# Altium schematic symbol library Symbols.SchLib: 27 symbols
Pins are listed as number, name and electrical type; pins without a type are passive.

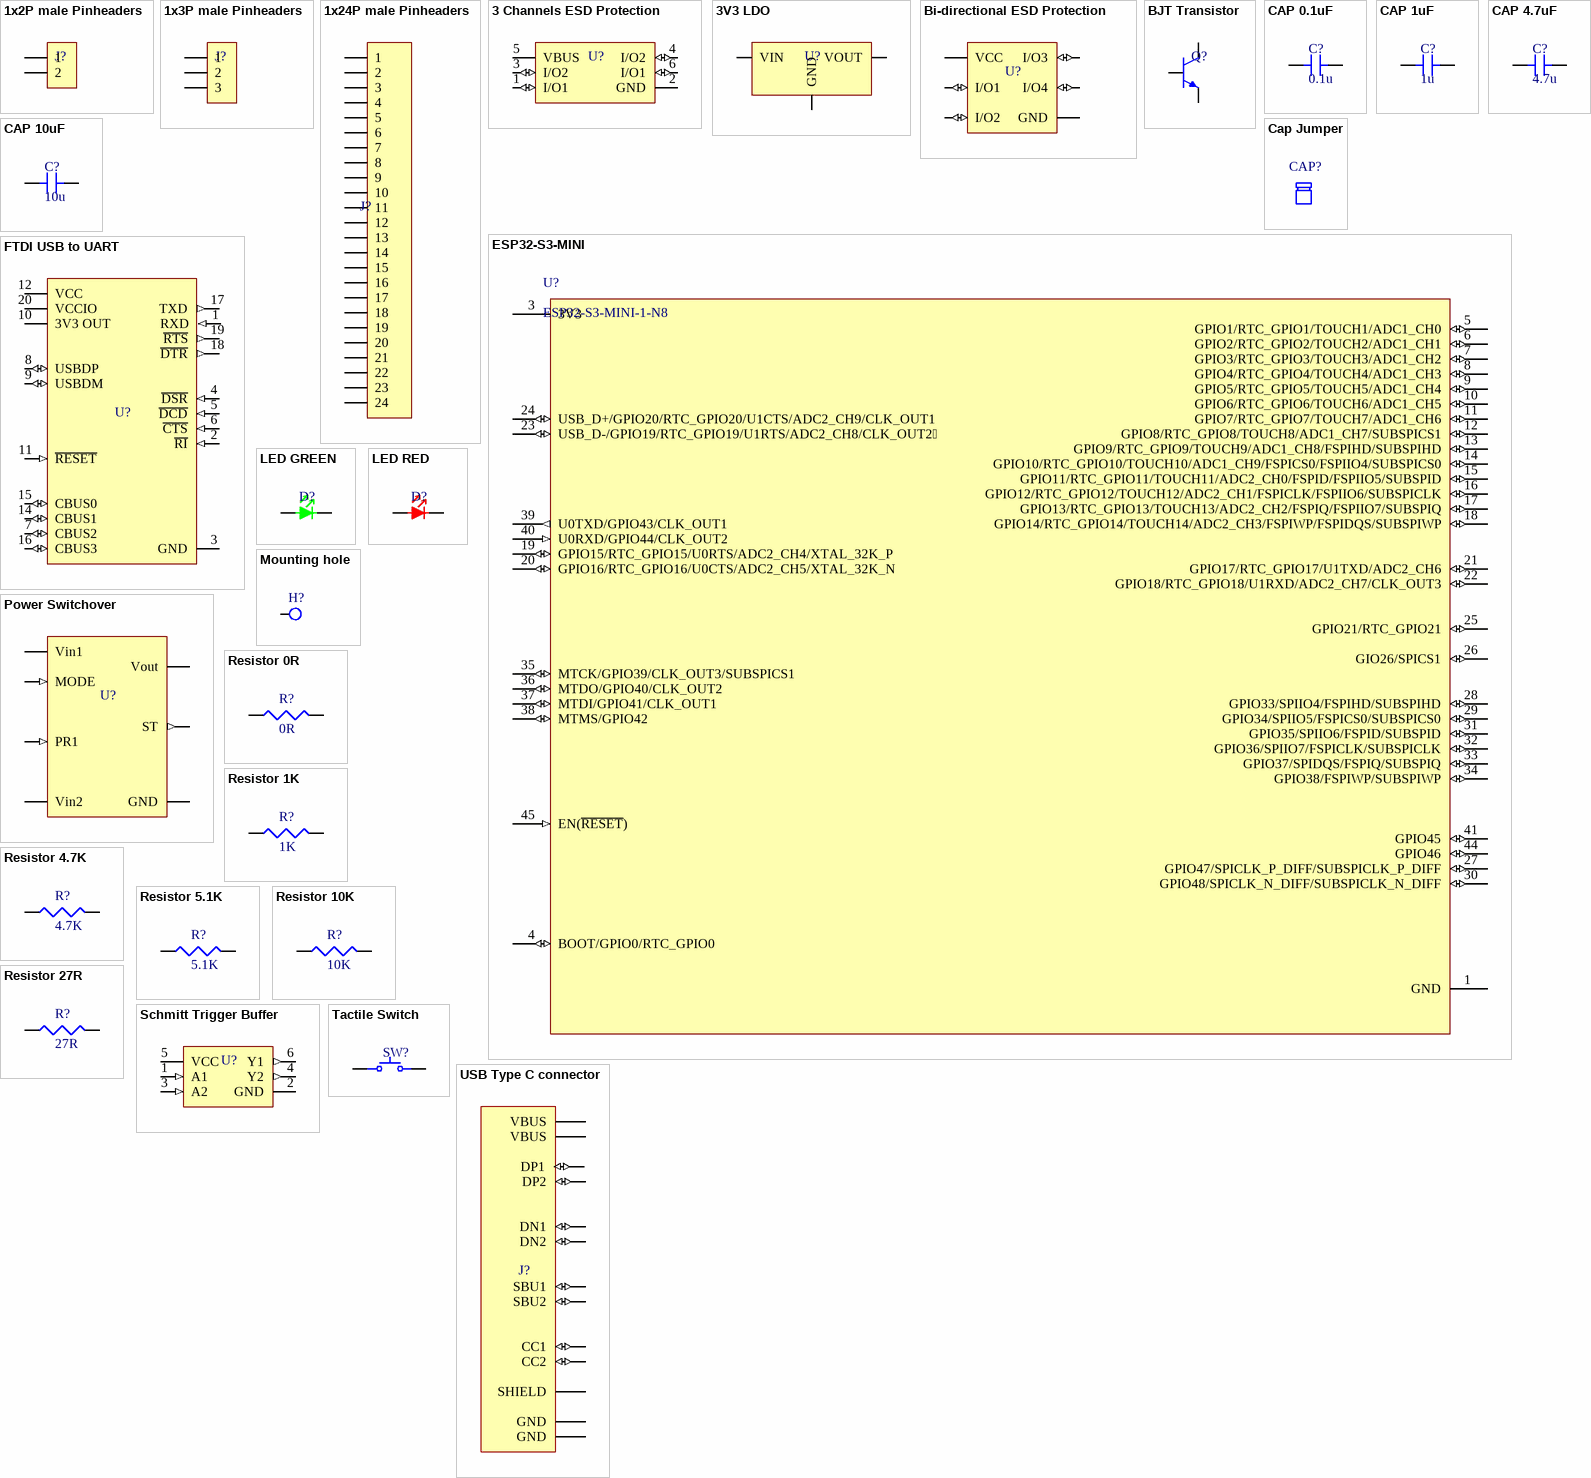
[diagram p0: symbols 1x2P male Pinheaders to USB Type C connector]

## 1x2P male Pinheaders
designator J?  (value not drawn)
3A Direct Insert Policy 2.54mm 2P 6mm 3mm 2.54mm Single Row 1x2P Plugin,P=2.54mm Pin Headers ROHS; Manufacturer: DEALON; Mfr. Part #: DZ254R-11-02-63; Supplier: LCSC ELECTRONICS; Supplier Part #: C2935908; Package: Plugin,P=2.54mm
footprint 1x2P male pinheader
pins: 1, 2

## 1x3P male Pinheaders
designator J?  (value not drawn)
Gold 250V 3A Direct Insert Policy 2.54mm 3P 260℃ 6mm -40℃~+105℃ 3mm 2.54mm Brass Black Single Row 2.54mm 1x3P Plugin,P=2.54mm Pin Headers ROHS; Manufacturer: Hanbo Electronic; Mfr. Part #: HB-PH3-25413PB2GOP; Supplier: LCSC ELECTRONICS; Supplier Part #: C6332196; Package: Plugin,P=2.54mm
footprint 1x3P male pinheader
pins: 1, 2, 3

## 1x24P male Pinheaders
designator J?  (value not drawn)
Gold 250V 3A Policy 2.5mm 24P 260℃ -40℃~+105℃ 2.54mm Single Row Black Brass 2.54mm 1x24P Plugin,P=2.54mm Pin Headers ROHS; Manufacturer: XKB Connection; Mfr. Part #: X6511WV-24H-C60D30; Supplier: LCSC ELECTRONICS; Supplier Part #: C725956; Package: Plugin,P=2.54mm
footprint 1x24P male pinheader
pins: 1, 2, 3, 4, 5, 6, 7, 8, 9, 10, 11, 12, 13, 14, 15, 16, 17, 18, 19, 20, 21, 22, 23, 24

## 3 Channels ESD Protection
designator U?  (value not drawn)
5A 17V 6V Unidirectional 5.25V SOT-23-6 Electrostatic and Surge Protection (TVS/ESD) ROHS; Manufacturer: STMicroelectronics; Mfr. Part #: USBLC6-2SC6; Supplier: LCSC; Supplier Part #: C7519; Package: SOT-23-6
footprint SOT-23-6
pins: 1 I/O1 (io), 2 GND (power), 3 I/O2 (io), 4 I/O2 (io), 5 VBUS (power), 6 I/O1 (io)

## 3V3 LDO
designator U?
79dB@(120Hz) 1.5A Fixed 3.3V Positive electrode 30V TO-252-2(DPAK) Voltage Regulators - Linear, Low Drop Out (LDO) Regulators ROHS; Manufacturer: STMicroelectronics; Mfr. Part #: LD1086DT33TR; Supplier: LCSC ELECTRONICS; Supplier Part #: C12051; Package: TO-252-2(DPAK)
footprint TO-252-2(DPAK)
pins: 1 GND (power), 2 VIN (power), 3 VOUT (power)

## Bi-directional ESD Protection
designator U?
8.5V 5.5V SOT-23-6 ESD and Surge Protection (TVS/ESD) ROHS; Manufacturer: Littelfuse; Mfr. Part #: SP0504SHTG; Supplier: LCSC ELECTRONICS; Supplier Part #: C207264; Package: SOT-23-6
footprint SOT-23-6
pins: 1 I/O1 (io), 2 GND (power), 3 I/O2 (io), 4 I/O3 (io), 5 VCC (power), 6 I/O4 (io)

## BJT Transistor
designator Q?  (value not drawn)
25V 300mW 120@100mA,1V 1.5A NPN SOT-23 Bipolar (BJT) ROHS; Manufacturer: Jiangsu Changjing Electronics Technology Co., Ltd.; Mfr. Part #: SS8050-G(RANGE:120-200); Supplier: LCSC ELECTRONICS; Supplier Part #: C164886; Package: SOT-23
footprint SOT-23
pins: 1, 2, 3

## CAP 0.1uF
designator C?, comment 0.1u
50V 100nF X7R ±5% 0603 Multilayer Ceramic Capacitors MLCC - SMD/SMT ROHS; Manufacturer: YAGEO; Mfr. Part #: CC0603JRX7R9BB104; Supplier: LCSC ELECTRONICS; Supplier Part #: C91183; Package: 0603
footprint 0603-CAP
pins: 1, 2

## CAP 1uF
designator C?, comment 1u
16V 1uF X7R ±5% 0603 Multilayer Ceramic Capacitors MLCC - SMD/SMT ROHS; Manufacturer: YAGEO; Mfr. Part #: CC0603JRX7R7BB105; Supplier: LCSC ELECTRONICS; Supplier Part #: C519560; Package: 0603
footprint 0603-CAP
pins: 1, 2

## CAP 4.7uF
designator C?, comment 4.7u
16V 4.7uF X5R ±10% 0603 Multilayer Ceramic Capacitors MLCC - SMD/SMT ROHS; Manufacturer: Samsung Electro-Mechanics; Mfr. Part #: CL10A475KO8NNNC; Supplier: LCSC ELECTRONICS; Supplier Part #: C19666; Package: 0603
footprint 0603-CAP
pins: 1, 2

## CAP 10uF
designator C?, comment 10u
16V 10uF X5R ±10% 0603 Multilayer Ceramic Capacitors MLCC - SMD/SMT ROHS; Manufacturer: Samsung Electro-Mechanics; Mfr. Part #: CL10A106KO8NQNC; Supplier: LCSC ELECTRONICS; Supplier Part #: C962136; Package: 0603
footprint 0603-CAP
pins: 1, 2

## Cap Jumper
designator CAP?  (value not drawn)
Open top 3A 2.54mm P=2.54mm Shunts, Jumpers ROHS; Manufacturer: BOOMELE(Boom Precision Elec); Mfr. Part #: 2.54; Supplier: LCSC ELECTRONICS; Supplier Part #: C5305; Package: P=2.54mm

## ESP32-S3-MINI
designator U?, comment ESP32-S3-MINI-1-N8
20.5dBm ESP32-S3FN8 chip 2.4GHz SMD-41P WiFi Modules ROHS; Manufacturer: Espressif Systems; Mfr. Part #: ESP32-S3-MINI-1-N8; Supplier: LCSC ELECTRONICS; Supplier Part #: C2913206; Package: SMD-41P
footprint ESP32-S3-MINI-1-N8
pins: 1 GND (power), 3 3V3 (power), 4 BOOT/GPIO0/RTC_GPIO0 (io), 5 GPIO1/RTC_GPIO1/TOUCH1/ADC1_CH0 (io), 6 GPIO2/RTC_GPIO2/TOUCH2/ADC1_CH1 (io), 7 GPIO3/RTC_GPIO3/TOUCH3/ADC1_CH2 (io), 8 GPIO4/RTC_GPIO4/TOUCH4/ADC1_CH3 (io), 9 GPIO5/RTC_GPIO5/TOUCH5/ADC1_CH4 (io), 10 GPIO6/RTC_GPIO6/TOUCH6/ADC1_CH5 (io), 11 GPIO7/RTC_GPIO7/TOUCH7/ADC1_CH6 (io), 12 GPIO8/RTC_GPIO8/TOUCH8/ADC1_CH7/SUBSPICS1 (io), 13 GPIO9/RTC_GPIO9/TOUCH9/ADC1_CH8/FSPIHD/SUBSPIHD (io), 14 GPIO10/RTC_GPIO10/TOUCH10/ADC1_CH9/FSPICS0/FSPIIO4/SUBSPICS0 (io), 15 GPIO11/RTC_GPIO11/TOUCH11/ADC2_CH0/FSPID/FSPIIO5/SUBSPID (io), 16 GPIO12/RTC_GPIO12/TOUCH12/ADC2_CH1/FSPICLK/FSPIIO6/SUBSPICLK (io), 17 GPIO13/RTC_GPIO13/TOUCH13/ADC2_CH2/FSPIQ/FSPIIO7/SUBSPIQ (io), 18 GPIO14/RTC_GPIO14/TOUCH14/ADC2_CH3/FSPIWP/FSPIDQS/SUBSPIWP (io), 19 GPIO15/RTC_GPIO15/U0RTS/ADC2_CH4/XTAL_32K_P (io), 20 GPIO16/RTC_GPIO16/U0CTS/ADC2_CH5/XTAL_32K_N (io), 21 GPIO17/RTC_GPIO17/U1TXD/ADC2_CH6 (io), 22 GPIO18/RTC_GPIO18/U1RXD/ADC2_CH7/CLK_OUT3 (io), 23 USB_D-/GPIO19/RTC_GPIO19/U1RTS/ADC2_CH8/CLK_OUT2 (io), 24 USB_D+/GPIO20/RTC_GPIO20/U1CTS/ADC2_CH9/CLK_OUT1 (io), 25 GPIO21/RTC_GPIO21 (io), 26 GIO26/SPICS1 (io), 27 GPIO47/SPICLK_P_DIFF/SUBSPICLK_P_DIFF (io), 28 GPIO33/SPIIO4/FSPIHD/SUBSPIHD (io), 29 GPIO34/SPIIO5/FSPICS0/SUBSPICS0 (io), 30 GPIO48/SPICLK_N_DIFF/SUBSPICLK_N_DIFF (io), 31 GPIO35/SPIIO6/FSPID/SUBSPID (io), 32 GPIO36/SPIIO7/FSPICLK/SUBSPICLK (io), 33 GPIO37/SPIDQS/FSPIQ/SUBSPIQ (io), 34 GPIO38/FSPIWP/SUBSPIWP (io), 35 MTCK/GPIO39/CLK_OUT3/SUBSPICS1 (io), 36 MTDO/GPIO40/CLK_OUT2 (io), 37 MTDI/GPIO41/CLK_OUT1 (io), 38 MTMS/GPIO42 (io), 39 U0TXD/GPIO43/CLK_OUT1 (out), 40 U0RXD/GPIO44/CLK_OUT2 (in), 41 GPIO45 (io), 44 GPIO46 (io), 45 EN(~{RESET}) (in)

## FTDI USB to UART
designator U?  (value not drawn)
USB to UART UART QFN-20-EP(4x4) USB Converters ROHS; Manufacturer: FTDI; Mfr. Part #: FT231XQ-R; Supplier: LCSC ELECTRONICS; Supplier Part #: C132159; Package: QFN-20-EP(4x4)
footprint QFN-20-EP(4x4)
pins: 1 RXD (in), 2 ~{RI} (in), 3 GND (power), 4 ~{DSR} (in), 5 ~{DCD} (in), 6 ~{CTS} (in), 7 CBUS2 (io), 8 USBDP (io), 9 USBDM (io), 10 3V3 OUT (power), 11 ~{RESET} (in), 12 VCC (power), 14 CBUS1 (io), 15 CBUS0 (io), 16 CBUS3 (io), 17 TXD (out), 18 ~{DTR} (out), 19 ~{RTS} (out), 20 VCCIO (power)

## LED GREEN
designator D?, comment GREEN  (value not drawn)
25mA Colorless transparent lens 516nm~525nm -30℃~+85℃ Positive Stick Emerald 120° 80mW 1206 LED Indication - Discrete ROHS; Manufacturer: XINGLIGHT; Mfr. Part #: XL-3216UGC; Supplier: LCSC ELECTRONICS; Supplier Part #: C965825; Package: 1206
footprint 1206-LED green
pins: 1, 2

## LED RED
designator D?, comment RED  (value not drawn)
20mA 225mcd Colorless and transparent -20℃~+85℃ Positive Stick 615nm~630nm Red 120° 50mW 2.4V 1206 LED Indication - Discrete ROHS; Manufacturer: XINGLIGHT; Mfr. Part #: XL-3216SURC; Supplier: LCSC ELECTRONICS; Supplier Part #: C965822; Package: 1206
footprint 1206-LED red
pins: 1, 2

## Mounting hole
designator H?  (value not drawn)  (no BOM)
footprint Monting Hole
pins: 1

## Power Switchover
designator U?
1.6V~5.5V 42mΩ 2.5A 1 SOT-583 Power Distribution Switches ROHS; Manufacturer: Texas Instruments; Mfr. Part #: TPS2116DRLR; Supplier: LCSC ELECTRONICS; Supplier Part #: C3235557; Package: SOT-583
footprint SOT-583
pins: 1 GND (power), 2 Vout (power), 3 Vin1 (power), 4 PR1 (in), 5 MODE (in), 6 Vin2 (power), 8 ST (out)

## Resistor 0R
designator R?, comment 0R
62.5mW Thick Film Resistors 50V ±800ppm/℃ ±1% 0Ω 0402 Chip Resistor - Surface Mount ROHS; Manufacturer: UNI-ROYAL(Uniroyal Elec); Mfr. Part #: 0402WGF0000TCE; Supplier: LCSC ELECTRONICS; Supplier Part #: C17168; Package: 0402
footprint 0402-RES
pins: 1, 2

## Resistor 1K
designator R?, comment 1K
100mW Thick Film Resistors 75V ±100ppm/℃ ±1% 1kΩ 0603 Chip Resistor - Surface Mount ROHS; Manufacturer: UNI-ROYAL(Uniroyal Elec); Mfr. Part #: 0603WAF1001T5E; Supplier: LCSC ELECTRONICS; Supplier Part #: C21190; Package: 0603
footprint 0603-RES
pins: 1, 2

## Resistor 4.7K
designator R?, comment 4.7K
100mW Thick Film Resistors 75V ±100ppm/℃ ±1% 4.7kΩ 0603 Chip Resistor - Surface Mount ROHS; Manufacturer: UNI-ROYAL(Uniroyal Elec); Mfr. Part #: 0603WAF4701T5E; Supplier: LCSC ELECTRONICS; Supplier Part #: C23162; Package: 0603
footprint 0603-RES
pins: 1, 2

## Resistor 5.1K
designator R?, comment 5.1K
100mW Thick Film Resistors 75V ±100ppm/℃ ±5% 5.1kΩ 0603 Chip Resistor - Surface Mount ROHS; Manufacturer: UNI-ROYAL(Uniroyal Elec); Mfr. Part #: 0603WAJ0512T5E; Supplier: LCSC ELECTRONICS; Supplier Part #: C26000; Package: 0603
footprint 0603-RES
pins: 1, 2

## Resistor 10K
designator R?, comment 10K
100mW Thick Film Resistors 75V ±100ppm/℃ ±1% 10kΩ 0603 Chip Resistor - Surface Mount ROHS; Manufacturer: UNI-ROYAL(Uniroyal Elec); Mfr. Part #: 0603WAF1002T5E; Supplier: LCSC ELECTRONICS; Supplier Part #: C25804; Package: 0603
footprint 0603-RES
pins: 1, 2

## Resistor 27R
designator R?, comment 27R
100mW Thick Film Resistors 75V ±1% ±200ppm/℃ 27Ω 0603 Chip Resistor - Surface Mount ROHS; Manufacturer: UNI-ROYAL(Uniroyal Elec); Mfr. Part #: 0603WAF270JT5E; Supplier: LCSC ELECTRONICS; Supplier Part #: C25190; Package: 0603
footprint 0603-RES
pins: 1, 2

## Schmitt Trigger Buffer
designator U?  (value not drawn)
Schmitt Trigger 32mA 1.65V~5.5V 32mA SOT-363-6 Buffers, Drivers, Receivers, Transceivers ROHS; Manufacturer: onsemi; Mfr. Part #: NC7WZ17P6X; Supplier: LCSC ELECTRONICS; Supplier Part #: C81546; Package: SOT-363-6
footprint Schmitt SOT-363-6
pins: 1 A1 (in), 2 GND (power), 3 A2 (in), 4 Y2 (out), 5 VCC (power), 6 Y1 (out)

## Tactile Switch
designator SW?
50mA 5.1mm 100,000 Times 160gf 12V 5.1mm 1.5mm Round Button Vertical welding SPST SMD Tactile Switches ROHS; Manufacturer: XKB Connection; Mfr. Part #: TS-1187A-B-A-B; Supplier: LCSC ELECTRONICS; Supplier Part #: C318884; Package: SMD
footprint Tactile Switch
pins: 1, 2

## USB Type C connector
designator J?
5A 1 16P Female Type-C SMD USB Connectors ROHS; Manufacturer: Korean Hroparts Elec; Mfr. Part #: TYPE-C-31-M-12; Supplier: LCSC ELECTRONICS; Supplier Part #: C165948; Package: SMD
footprint USB-C
pins: A1/B12 GND (power), A4/B9 VBUS (power), A5 CC1 (io), A6 DP1 (io), A7 DN1 (io), A8 SBU1 (io), B1/A12 GND (power), B4/A9 VBUS (power), B5 CC2 (io), B6 DP2 (io), B7 DN2 (io), B8 SBU2 (io), SH SHIELD